# Altium footprint library SolderBridge.PcbLib: 1 footprints
Each footprint in its own frame and in the unit in brackets; x right, y up, seen from the top. Pads: shape width x height; smd on the part's side, far side on the other; paste and mask are expansions set on the pad; w line width, h text height; cw(c..) or ccw(c..) is an arc to the next point about the centre after c.
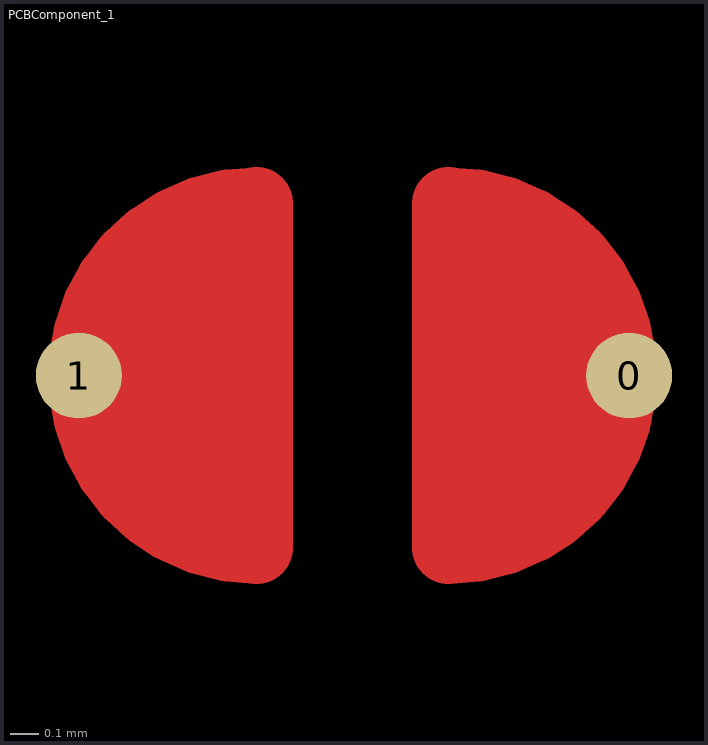
[diagram p0: the footprint, top view; thin cyan lines are the x and y axes]

## PCBComponent_1 [mm]
pads (2):
  round 0.3 smd: 0(9.53,4.12) 1(7.61,4.12)
Top Layer:
  lines w0.254: 8.96,4.39 9.23,4.39 ; 8.9,4.72 cw(c8.9,4.12) 8.9,3.52 8.9,4.72 ; 8.9,4.72 8.9,4.33 9.32,3.91 ; 8.9,4.72 9.23,4.39 ; 8.9,4.72 8.9,3.89 9.1,3.69 9.32,3.91 ; 9.23,4.39 9.02,4.18 9.02,4.01 8.92,3.91 9.32,3.91 ; 9.23,4.39 9.23,4.23 9.32,4.32 9.32,3.91 ; 7.83,3.92 7.83,4.36 8.06,4.59 8.06,3.69 7.83,3.92 ; 8.23,3.52 cw(c8.23,4.12) 8.23,4.72 8.23,3.52
Top Paste:
  lines w0.254: 8.96,4.37 9.23,4.37 ; 8.9,4.7 cw(c8.9,4.1) 8.9,3.5 8.9,4.7 ; 8.9,4.7 9.23,4.37 ; 8.9,4.7 8.9,3.87 9.1,3.67 9.32,3.89 ; 8.9,4.7 8.9,4.31 9.32,3.89 ; 9.23,4.37 9.23,4.21 9.32,4.3 9.32,3.89 ; 9.23,4.37 9.02,4.16 9.02,3.99 8.92,3.89 9.32,3.89 ; 7.83,3.9 7.83,4.34 8.06,4.57 8.06,3.67 7.83,3.9 ; 8.23,3.5 cw(c8.23,4.1) 8.23,4.7 8.23,3.5
Top Solder:
  lines w0.254: 8.966,4.421 9.236,4.421 ; 8.906,4.751 cw(c8.906,4.151) 8.906,3.551 8.906,4.751 ; 8.906,4.751 9.236,4.421 ; 8.906,4.751 8.906,4.361 9.326,3.941 ; 8.906,4.751 8.906,3.921 9.106,3.721 9.326,3.941 ; 9.236,4.421 9.236,4.261 9.326,4.351 9.326,3.941 ; 9.236,4.421 9.026,4.211 9.026,4.041 8.926,3.941 9.326,3.941 ; 7.836,3.951 7.836,4.391 8.066,4.621 8.066,3.721 7.836,3.951 ; 8.236,3.551 cw(c8.236,4.151) 8.236,4.751 8.236,3.551